# EAGLE library part SNES_MULTIAV_RGBC_ONLY (library snes_div)
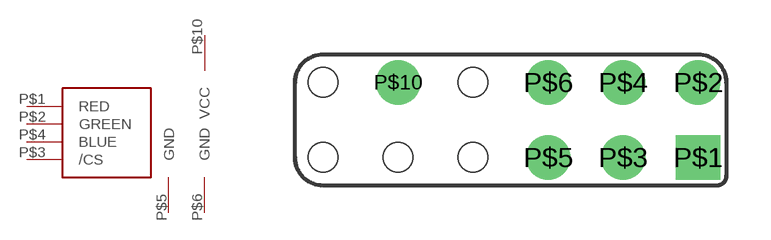
[diagram p9: symbol with the pads of SNES_MULTIAV_RGBC_ONLY; footprint SNES_MULTIAV_RGBC_ONLY]

Designator prefix -; gates G$1=SNES_MULTIAV_RGBC_ONLY G$2=PWR_MULTIAV_GND G$3=PWR

## SNES_MULTIAV_RGBC_ONLY  [SNES_MULTIAV_RGBC_ONLY]
P$1  G$1:RED
P$2  G$1:GREEN
P$3  G$1:/CS
P$4  G$1:BLUE
P$5  G$2:GND
P$6  G$3:GND
P$10  G$3:VCC

## Footprint SNES_MULTIAV_RGBC_ONLY (pad centres in mm)
drill 1 square: P$1 6.35,-1.27
drill 1: P$2 6.35,1.27; P$3 3.81,-1.27; P$4 3.81,1.27; P$5 1.27,-1.27; P$6 1.27,1.27; P$10 -3.81,1.27
hole 1 at -1.27,-1.27
hole 1 at -1.27,1.27
hole 1 at -3.81,-1.27
hole 1 at -6.35,-1.27
hole 1 at -6.35,1.27